# EAGLE library part 734-574 (library con-wago_3.81mm)
Serie 734, Federleiste mit abgewinkelten Einlötstiften / Series 734, Female connector with angled solder pins Polzahl / Pole No.: 14 Bemessungsspannung / Rated Voltage: 160 V Nennstrom / Nominal Current: 10 A Lötstiftlänge: / Solder Pin Length: 3.8 mm Farbe / Color: orange / orange Stand: 01.01.2012. Die jeweils aktuellen Daten zu diesem Artikel finden Sie in unserem Produktkatalog, den Sie unter www.wago.com einsehen können. As of: 01/01/2012. Please find the newest data for this article in our product catalogue, which can be viewed under www.wago.com.
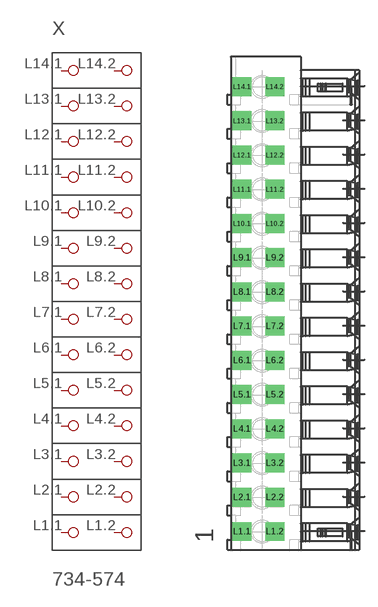
[diagram p56: symbol with the pads of P-734-574; footprint P-734-574]

Designator prefix X

## 734-574  [P-734-574]
L1.1  P1.1
L1.2  P1.2
L2.1  P2.1
L2.2  P2.2
L3.1  P3.1
L3.2  P3.2
L4.1  P4.1
L4.2  P4.2
L5.1  P5.1
L5.2  P5.2
L6.1  P6.1
L6.2  P6.2
L7.1  P7.1
L7.2  P7.2
L8.1  P8.1
L8.2  P8.2
L9.1  P9.1
L9.2  P9.2
L10.1  P10.1
L10.2  P10.2
L11.1  P11.1
L11.2  P11.2
L12.1  P12.1
L12.2  P12.2
L13.1  P13.1
L13.2  P13.2
L14.1  P14.1
L14.2  P14.2

## Footprint P-734-574 (pad centres in mm)
drill 1.4 square: L1.1 -6.016,-25.41; L1.2 -2.366,-25.41; L2.1 -6.016,-21.6; L2.2 -2.366,-21.6; L3.1 -6.016,-17.79; L3.2 -2.366,-17.79; L4.1 -6.016,-13.98; L4.2 -2.366,-13.98; L5.1 -6.016,-10.17; L5.2 -2.366,-10.17; L6.1 -6.016,-6.36; L6.2 -2.366,-6.36; L7.1 -6.016,-2.55; L7.2 -2.366,-2.55; L8.1 -6.016,1.26; L8.2 -2.366,1.26; L9.1 -6.016,5.07; L9.2 -2.366,5.07; L10.1 -6.016,8.88; L10.2 -2.366,8.88; L11.1 -6.016,12.69; L11.2 -2.366,12.69; L12.1 -6.016,16.5; L12.2 -2.366,16.5; L13.1 -6.016,20.31; L13.2 -2.366,20.31; L14.1 -6.016,24.12; L14.2 -2.366,24.12